# EAGLE library part PAC1710-1 (library PAC1710)
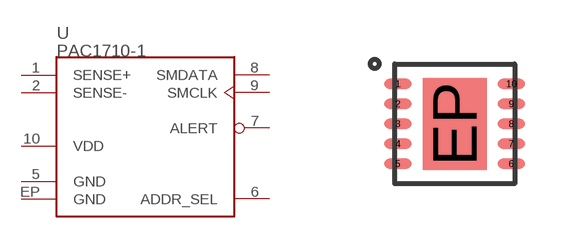
[diagram p0: symbol with the pads of DFN10; footprint DFN10]

Designator prefix U

## PAC1710-1-AIA  [DFN10]
1  SENSE+  in
2  SENSE-  in
5  GND  sup
6  ADDR_SEL  in
7  ALERT  oc
8  SMDATA  oc
9  SMCLK  oc
10  VDD  pwr
EP  GND  sup

## Footprint DFN10 (pad centres in mm)
smd 0.686 x 0.254: 1 -1.42,1; 2 -1.42,0.5; 3 -1.42,0; 4 -1.42,-0.5; 5 -1.42,-1; 6 1.42,-1; 7 1.42,-0.5; 8 1.42,0; 9 1.42,0.5; 10 1.42,1
smd 1.6 x 2.3: EP 0,0